# EAGLE library part TS3300 (library Oles komponentbibliotek)
0.6-3Vin, 1.8-3.6Vout, 3.5µA, high-efficiency boost + output load switch
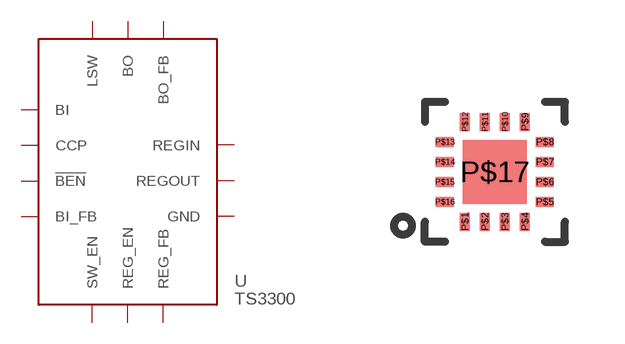
[diagram p38: symbol with the pads of TQFN33-4X4; footprint TQFN33-4X4]

Designator prefix -

## TS3300  [TQFN33-4X4]
P$1  BI  in
P$2  CCP  in
P$3  !BEN  in
P$4  BI_FB  in
P$6  SW_EN  in
P$7  REG_EN  in
P$8  REG_FB  in
P$9  GND  pwr
P$10  REGOUT  out
P$11  REGIN  in
P$12  GND  pwr
P$13  BO_FB  out
P$14  BO  pwr
P$15  LSW  in
P$16  GND  pwr
P$17  GND  pwr

## Footprint TQFN33-4X4 (pad centres in mm)
smd 0.25 x 0.45: P$1 -0.5,-1; P$2 0,-1; P$3 0.5,-1; P$4 1,-1; P$9 1,1.5; P$10 0.5,1.5; P$11 0,1.5; P$12 -0.5,1.5
smd 0.45 x 0.25: P$5 1.5,-0.5; P$6 1.5,0; P$7 1.5,0.5; P$8 1.5,1; P$13 -1,1; P$14 -1,0.5; P$15 -1,0; P$16 -1,-0.5
smd 1.6 x 1.6: P$17 0.25,0.25